# EAGLE library part WF-M620-RSA1 (library AzureSphere)
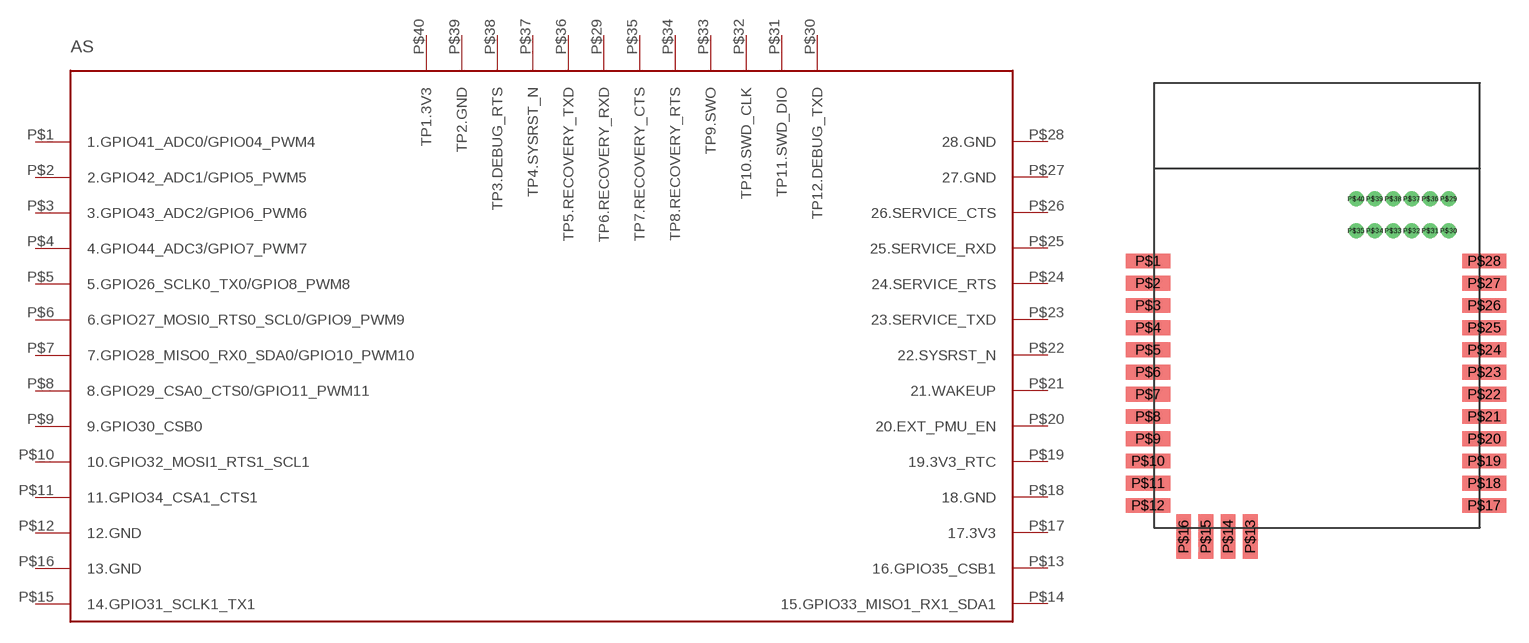
[diagram p0: symbol with the pads of WF-M620-RSA1; footprint WF-M620-RSA1]

Designator prefix AS

## WF-M620-RSA1  [WF-M620-RSA1]
P$1  1.GPIO41_ADC0/GPIO04_PWM4
P$2  2.GPIO42_ADC1/GPIO5_PWM5
P$3  3.GPIO43_ADC2/GPIO6_PWM6
P$4  4.GPIO44_ADC3/GPIO7_PWM7
P$5  5.GPIO26_SCLK0_TX0/GPIO8_PWM8
P$6  6.GPIO27_MOSI0_RTS0_SCL0/GPIO9_PWM9
P$7  7.GPIO28_MISO0_RX0_SDA0/GPIO10_PWM10
P$8  8.GPIO29_CSA0_CTS0/GPIO11_PWM11
P$9  9.GPIO30_CSB0
P$10  10.GPIO32_MOSI1_RTS1_SCL1
P$11  11.GPIO34_CSA1_CTS1
P$12  12.GND
P$13  16.GPIO35_CSB1
P$14  15.GPIO33_MISO1_RX1_SDA1
P$15  14.GPIO31_SCLK1_TX1
P$16  13.GND
P$17  17.3V3
P$18  18.GND
P$19  19.3V3_RTC
P$20  20.EXT_PMU_EN
P$21  21.WAKEUP
P$22  22.SYSRST_N
P$23  23.SERVICE_TXD
P$24  24.SERVICE_RTS
P$25  25.SERVICE_RXD
P$26  26.SERVICE_CTS
P$27  27.GND
P$28  28.GND
P$29  TP6.RECOVERY_RXD
P$30  TP12.DEBUG_TXD
P$31  TP11.SWD_DIO
P$32  TP10.SWD_CLK
P$33  TP9.SWO
P$34  TP8.RECOVERY_RTS
P$35  TP7.RECOVERY_CTS
P$36  TP5.RECOVERY_TXD
P$37  TP4.SYSRST_N
P$38  TP3.DEBUG_RTS
P$39  TP2.GND
P$40  TP1.3V3

## Footprint WF-M620-RSA1 (pad centres in mm)
smd 3 x 1: P$1 -10.4,7; P$2 -10.4,5.5; P$3 -10.4,4; P$4 -10.4,2.5; P$5 -10.4,1; P$6 -10.4,-0.5; P$7 -10.4,-2; P$8 -10.4,-3.5; P$9 -10.4,-5; P$10 -10.4,-6.5; P$11 -10.4,-8; P$12 -10.4,-9.5; P$17 12.3,-9.5; P$18 12.3,-8; P$19 12.3,-6.5; P$20 12.3,-5; P$21 12.3,-3.5; P$22 12.3,-2; P$23 12.3,-0.5; P$24 12.3,1; P$25 12.3,2.5; P$26 12.3,4; P$27 12.3,5.5; P$28 12.3,7
smd 1 x 3: P$13 -3.5,-11.6; P$14 -5,-11.6; P$15 -6.5,-11.6; P$16 -8,-11.6
drill 0.5 pad 1.016: P$29 9.9,11.2; P$30 9.9,9.05; P$31 8.65,9.05; P$32 7.4,9.05; P$33 6.15,9.05; P$34 4.9,9.05; P$35 3.65,9.05; P$36 8.65,11.2; P$37 7.4,11.2; P$38 6.15,11.2; P$39 4.9,11.2; P$40 3.65,11.2